# EAGLE library part WS2813A (library WS2813A v2)
Intelligent control LED integrated light source
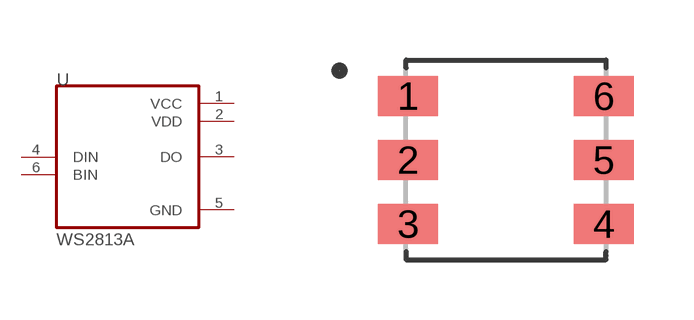
[diagram p0: symbol with the pads of LED_WS2813A; footprint LED_WS2813A]

Designator prefix U

## WS2813A (MANUFACTURER: Worldsemi; STANDARD: Manufacturer Recommendations)  [LED_WS2813A]
1  VCC  nc
2  VDD  pwr
3  DO  out
4  DIN  in
5  GND  pwr
6  BIN  in

## Footprint LED_WS2813A (pad centres in mm)
smd 1.5 x 1: 1 -2.45,1.6; 2 -2.45,0; 3 -2.45,-1.6; 4 2.45,-1.6; 5 2.45,0; 6 2.45,1.6